# EAGLE library part ACOUSTICLIB_MA06-1 (library LIBRARY)
PIN HEADER
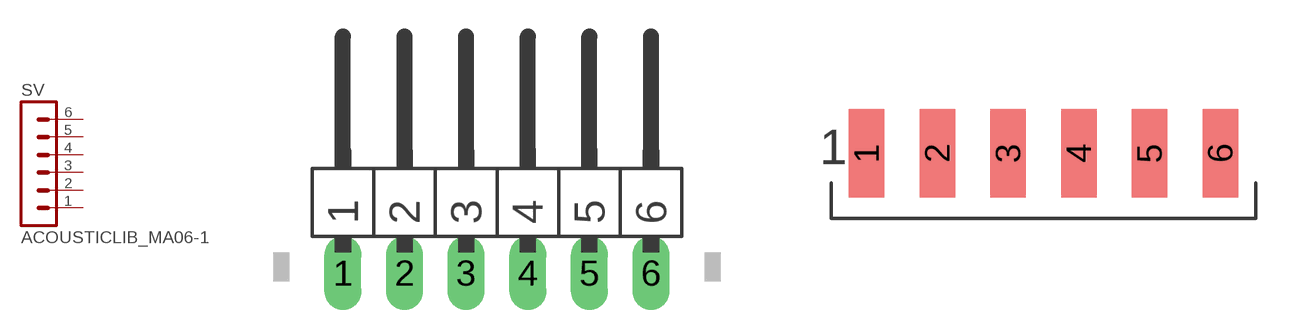
[diagram p2: symbol with the pads of ACOUSTICLIB_MA06-1W; footprints ACOUSTICLIB_MA06-1W, ACOUSTICLIB_TSM-106-X-SH-BOARDEDGE]

Designator prefix SV

## ACOUSTICLIB_MA06-1RIGHT_ANGLE  [ACOUSTICLIB_MA06-1W]
1  1  pas
2  2  pas
3  3  pas
4  4  pas
5  5  pas
6  6  pas

## ACOUSTICLIB_MA06-1SMD_BOARD_EDGE  [ACOUSTICLIB_TSM-106-X-SH-BOARDEDGE]
Pads as for ACOUSTICLIB_MA06-1W

## ACOUSTICLIB_MA06-1SMD_RIGHT_ANGLE  [ACOUSTICLIB_TSM-106-XX-XXX-SH]
Pads as for ACOUSTICLIB_MA06-1W

## ACOUSTICLIB_MA06-1STRAIGHT (OC_FARNELL: unknown; OC_NEWARK: unknown)  [ACOUSTICLIB_MA06-1]
Pads as for ACOUSTICLIB_MA06-1W

## Footprint ACOUSTICLIB_MA06-1W (pad centres in mm)
PIN HEADER
drill 1.016 long: 1 -6.35,0; 2 -3.81,0; 3 -1.27,0; 4 1.27,0; 5 3.81,0; 6 6.35,0

## Footprint ACOUSTICLIB_TSM-106-X-SH-BOARDEDGE (pad centres in mm)
smd 1.27 x 3.175: 1 -6.35,-1.473; 2 -3.81,-1.473; 3 -1.27,-1.473; 4 1.27,-1.473; 5 3.81,-1.473; 6 6.35,-1.473

## Footprint ACOUSTICLIB_TSM-106-XX-XXX-SH (pad centres in mm)
.100" (2,54mm) Surface Mount, Single Row, Horizontal Mount.
smd 1.27 x 3.175: 1 -8.89,-6.553; 2 -6.35,-6.553; 3 -3.81,-6.553; 4 -1.27,-6.553; 5 1.27,-6.553; 6 3.81,-6.553

## Footprint ACOUSTICLIB_MA06-1 (pad centres in mm)
PIN HEADER
drill 1.016 long: 1 -6.35,0; 2 -3.81,0; 3 -1.27,0; 4 1.27,0; 5 3.81,0; 6 6.35,0